# Altium footprint library MYC-T507H.PcbLib: 1 footprints
Each footprint in its own frame and in the unit in brackets; x right, y up, seen from the top. Pads: shape width x height; smd on the part's side, far side on the other; paste and mask are expansions set on the pad; w line width, h text height; cw(c..) or ccw(c..) is an arc to the next point about the centre after c.
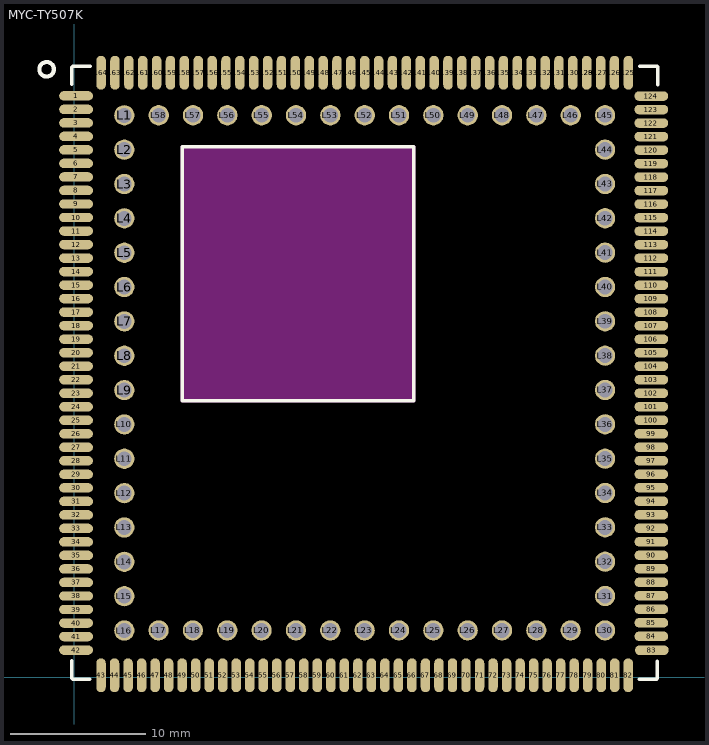
[diagram p0: the footprint, top view; thin cyan lines are the x and y axes]

## MYC-TY507K [mm]
pads (222):
  oval 2.5x0.7 smd: 1(0.15,42.992) 2(0.15,41.992) 3(0.15,40.992) 4(0.15,39.992) 5(0.15,38.992) 6(0.15,37.992) 7(0.15,36.992) 8(0.15,35.992) 9(0.15,34.992) 10(0.15,33.993) 11(0.15,32.993) 12(0.15,31.993) 13(0.15,30.993) 14(0.15,29.993) 15(0.15,28.993) 16(0.15,27.993) 17(0.15,26.993) 18(0.15,25.993) 19(0.15,24.993) 20(0.15,23.993) 21(0.15,22.993) 22(0.15,21.993) 23(0.15,20.993) 24(0.15,19.993) 25(0.15,18.993) 26(0.15,17.993) 27(0.15,16.993) 28(0.15,15.993) 29(0.15,14.993) 30(0.15,13.993) 31(0.15,12.993) 32(0.15,11.993) 33(0.15,10.993) 34(0.15,9.993) 35(0.15,8.993) 36(0.15,7.993) 37(0.15,6.993) 38(0.15,5.993) 39(0.15,4.993) 40(0.15,3.993) 41(0.15,2.993) 42(0.15,1.993) 83(42.742,1.983) 84(42.707,3.009) 85(42.707,4.008) 86(42.707,5.007) 87(42.707,6.006) 88(42.707,7.006) 89(42.707,8.005) 90(42.707,9.004) 91(42.707,10.003) 92(42.707,11.002) 93(42.707,12.001) 94(42.707,13.001) 95(42.707,14) 96(42.707,14.999) 97(42.707,15.998) 98(42.707,16.997) 99(42.707,17.996) 100(42.707,18.995) 101(42.707,19.995) 102(42.707,20.994) 103(42.707,21.993) 104(42.707,22.992) 105(42.707,23.991) 106(42.707,24.99) 107(42.707,25.989) 108(42.707,26.989) 109(42.707,27.988) 110(42.707,28.987) 111(42.707,29.986) 112(42.707,30.985) 113(42.707,31.984) 114(42.707,32.983) 115(42.707,33.983) 116(42.707,34.982) 117(42.707,35.981) 118(42.707,36.98) 119(42.707,37.979) 120(42.707,38.978) 121(42.707,39.977) 122(42.707,40.977) 123(42.707,41.976) 124(42.707,42.975)
  oval 0.7x2.5 smd: 43(1.996,0.127) 44(2.997,0.127) 45(3.997,0.127) 46(4.997,0.127) 47(5.997,0.127) 48(6.997,0.127) 49(7.997,0.127) 50(8.997,0.127) 51(9.997,0.127) 52(10.997,0.127) 53(11.997,0.127) 54(12.997,0.127) 55(13.997,0.127) 56(14.997,0.127) 57(15.997,0.127) 58(16.997,0.127) 59(17.997,0.127) 60(18.997,0.127) 61(19.997,0.127) 62(20.997,0.127) 63(21.997,0.127) 64(22.997,0.127) 65(23.997,0.127) 66(24.997,0.127) 67(25.997,0.127) 68(26.997,0.127) 69(27.997,0.127) 70(28.997,0.127) 71(29.997,0.127) 72(30.997,0.127) 73(31.997,0.127) 74(32.997,0.127) 75(33.997,0.127) 76(34.997,0.127) 77(35.997,0.127) 78(36.997,0.127) 79(37.997,0.127) 80(38.997,0.127) 81(39.997,0.127) 82(40.997,0.127) 125(41.005,44.704) 126(39.979,44.704) 127(38.952,44.704) 128(37.926,44.704) 129(37.926,44.704) 130(36.899,44.704) 131(35.873,44.704) 132(34.847,44.704) 133(33.82,44.704) 134(32.794,44.704) 135(31.767,44.704) 136(30.741,44.704) 137(29.714,44.704) 138(28.688,44.704) 139(27.662,44.704) 140(26.635,44.704) 141(25.609,44.704) 142(24.582,44.704) 143(23.556,44.704) 144(22.529,44.704) 145(21.503,44.704) 146(20.477,44.704) 147(19.45,44.704) 148(18.424,44.704) 149(17.397,44.704) 150(16.371,44.704) 151(15.344,44.704) 152(14.318,44.704) 153(13.292,44.704) 154(12.265,44.704) 155(11.239,44.704) 156(10.212,44.704) 157(9.186,44.704) 158(8.159,44.704) 159(7.133,44.704) 160(6.107,44.704) 161(5.08,44.704) 162(4.054,44.704) 163(3.027,44.704) 164(2.001,44.704)
  round 1.5 hole 1.1: L1(3.719,41.552) L2(3.719,39.012) L3(3.719,36.471) L4(3.719,33.93) L5(3.719,31.389) L6(3.719,28.848) L7(3.719,26.307) L8(3.719,23.766) L9(3.719,21.225) L10(3.719,18.685) L11(3.719,16.144) L12(3.719,13.603) L13(3.719,11.062) L14(3.719,8.521) L15(3.719,5.98) L16(3.719,3.439) L17(6.254,3.446) L18(8.795,3.446) L19(11.335,3.446) L20(13.876,3.446) L21(16.416,3.446) L22(18.957,3.446) L23(21.497,3.446) L24(24.038,3.446) L25(26.578,3.446) L26(29.119,3.446) L27(31.659,3.446) L28(34.2,3.446) L29(36.74,3.446) L30(39.281,3.446) L31(39.284,5.992) L32(39.284,8.532) L33(39.284,11.072) L34(39.284,13.613) L35(39.284,16.153) L36(39.284,18.693) L37(39.284,21.233) L38(39.284,23.773) L39(39.284,26.314) L40(39.284,28.854) L41(39.284,31.394) L42(39.284,33.934) L43(39.284,36.474) L44(39.284,39.014) L45(39.284,41.555) L46(36.742,41.555) L47(34.202,41.555) L48(31.662,41.555) L49(29.122,41.555) L50(26.582,41.555) L51(24.042,41.555) L52(21.502,41.555) L53(18.962,41.555) L54(16.423,41.555) L55(13.883,41.555) L56(11.343,41.555) L57(8.803,41.555) L58(6.263,41.555)
Top Overlay:
  circle w0.3: c-2.032,44.958 r0.539
  lines w0.254: -0.168,43.834 -0.168,45.109 -0.107,45.17 1.195,45.17 ; -0.164,1.202 -0.164,-0.101 -0.103,-0.162 1.172,-0.162 ; 41.796,-0.162 43.098,-0.162 43.159,-0.101 43.159,1.174 ; 41.858,45.193 43.133,45.193 43.194,45.132 43.194,43.83 ; 8.001,20.447 25.146,20.447 25.146,39.243 8.001,39.243 8.001,20.447
Keep-Out Layer:
  region: 8.001,39.243 8.001,20.447 25.146,20.447 25.146,39.243
  lines w0.254: 8.001,20.447 8.001,39.243 ; 8.001,20.447 25.146,20.447 ; 8.001,20.447 25.146,20.447 ; 8.001,20.447 8.001,39.243 ; 8.001,39.243 25.146,39.243 ; 8.001,39.243 25.146,39.243 ; 25.146,20.447 25.146,39.243 ; 25.146,20.447 25.146,39.243
Multi-Layer:
  lines w0.254: 8.001,20.447 8.001,39.243 25.146,39.243 25.146,20.447 8.001,20.447
3D body "MYC-YT507H-0601.STEP": height 3.37, standoff -0.81, extent 0,0 43,45